# Altium footprint library TP_PAD_1.3MM.PcbLib: 1 footprints
Each footprint in its own frame and in the unit in brackets; x right, y up, seen from the top. Pads: shape width x height; smd on the part's side, far side on the other; paste and mask are expansions set on the pad; w line width, h text height; cw(c..) or ccw(c..) is an arc to the next point about the centre after c.
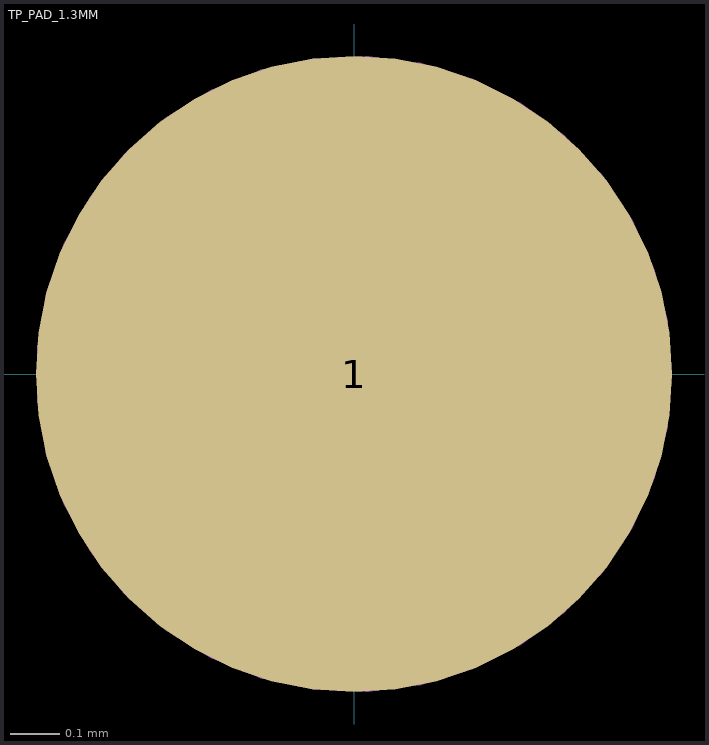
[diagram p0: the footprint, top view; thin cyan lines are the x and y axes]

## TP_PAD_1.3MM [mm] "Small SMD testpoint 1.3MM"
pads (1):
  round 1.3 smd paste-2.54 mask+0: 1(0,0)
Top Assembly:
  circle w0.05: c0,0 r0.625
Top Courtyard:
  circle w0.05: c0,0 r0.625